# EAGLE library part PI49FCT3803 (library xess)
Pericom 1:7 Clock Buffer Pericom 1:7 clock buffer.
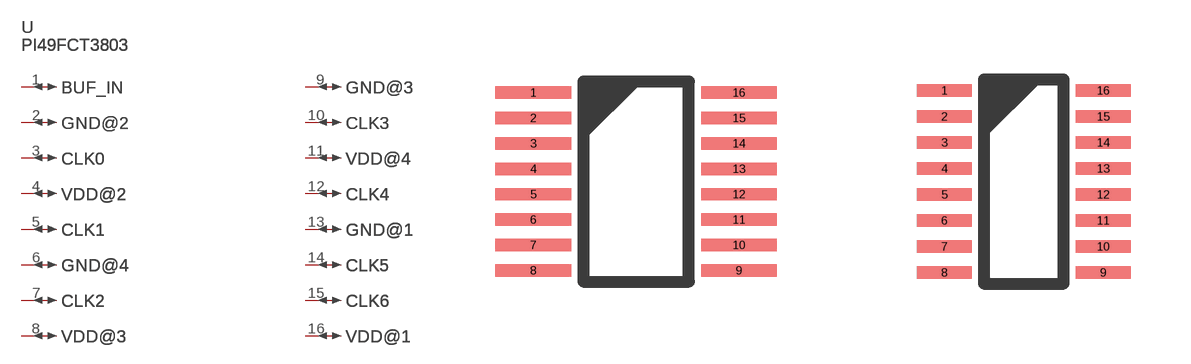
[diagram p122: symbol with the pads of PERICOM-QSOP-16; footprints PERICOM-QSOP-16, PERICOM-TSSOP-16]

Designator prefix U; gates PART_VALUE=PV_GATE BUF_IN=PIN_GATE GND@2=PIN_GATE CLK0=PIN_GATE VDD@2=PIN_GATE CLK1=PIN_GATE GND@4=PIN_GATE CLK2=PIN_GATE VDD@3=PIN_GATE GND@3=PIN_GATE CLK3=PIN_GATE VDD@4=PIN_GATE CLK4=PIN_GATE GND@1=PIN_GATE CLK5=PIN_GATE CLK6=PIN_GATE VDD@1=PIN_GATE

## PI49FCT3803Q  [PERICOM-QSOP-16]
1  BUF_IN:P$1
2  GND@2:P$1
3  CLK0:P$1
4  VDD@2:P$1
5  CLK1:P$1
6  GND@4:P$1
7  CLK2:P$1
8  VDD@3:P$1
9  GND@3:P$1
10  CLK3:P$1
11  VDD@4:P$1
12  CLK4:P$1
13  GND@1:P$1
14  CLK5:P$1
15  CLK6:P$1
16  VDD@1:P$1

## PI49FCT3803L  [PERICOM-TSSOP-16]
Pads as for PERICOM-QSOP-16

## Footprint PERICOM-QSOP-16 (pad centres in mm)
Pericom 16-Pin QSOP Package Pericom 16-Pin QSOP package.
smd 1.89 x 0.31: 1 -0.11,0; 2 -0.11,-0.635; 3 -0.11,-1.27; 4 -0.11,-1.905; 5 -0.11,-2.54; 6 -0.11,-3.175; 7 -0.11,-3.81; 8 -0.11,-4.445; 9 5.03,-4.445; 10 5.03,-3.81; 11 5.03,-3.175; 12 5.03,-2.54; 13 5.03,-1.905; 14 5.03,-1.27; 15 5.03,-0.635; 16 5.03,0

## Footprint PERICOM-TSSOP-16 (pad centres in mm)
Pericom 16-Pin TSSOP Package Pericom 16-Pin TSSOP package.
smd 1.37 x 0.31: 1 -0.11,0; 2 -0.11,-0.65; 3 -0.11,-1.3; 4 -0.11,-1.95; 5 -0.11,-2.6; 6 -0.11,-3.25; 7 -0.11,-3.9; 8 -0.11,-4.55; 9 3.86,-4.55; 10 3.86,-3.9; 11 3.86,-3.25; 12 3.86,-2.6; 13 3.86,-1.95; 14 3.86,-1.3; 15 3.86,-0.65; 16 3.86,0